# Altium footprint library TO92127P478H483-3.PcbLib: 1 footprints
Each footprint in its own frame and in the unit in brackets; x right, y up, seen from the top. Pads: shape width x height; smd on the part's side, far side on the other; paste and mask are expansions set on the pad; w line width, h text height; cw(c..) or ccw(c..) is an arc to the next point about the centre after c.
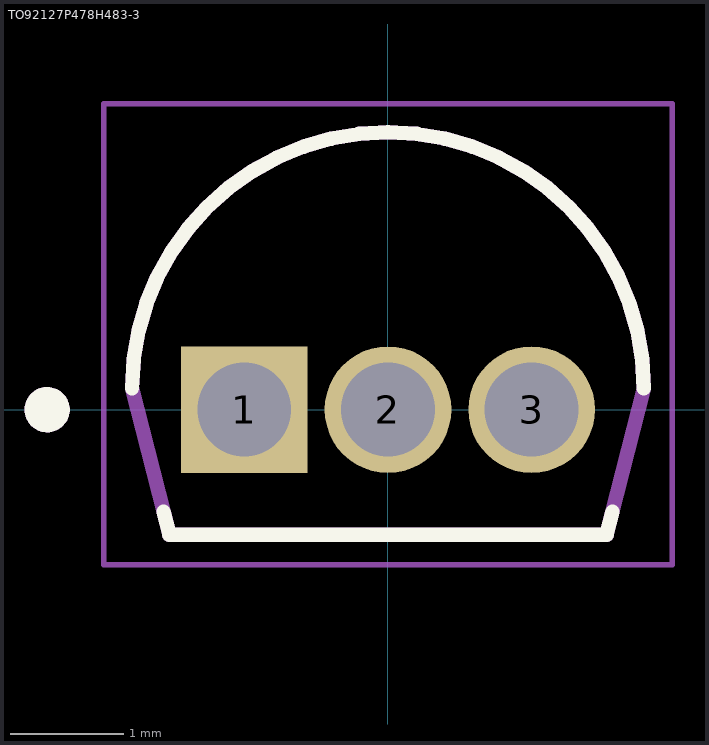
[diagram p0: the footprint, top view; thin cyan lines are the x and y axes]

## TO92127P478H483-3 [mm]
pads (3):
  rect 1.12x1.12 hole 0.83: 1(-1.27,0)
  round 1.12 hole 0.83: 2(0,0) 3(1.27,0)
Top Overlay:
  circle w0.2: c-3.013,0 r0.1
  lines w0.127: -2.262,0.19 cw(c0,0.19) 2.262,0.19 ; -1.984,-0.9 -1.933,-1.105 1.933,-1.105 1.984,-0.9
Mechanical 13:
  circle w0.2: c-3.013,0 r0.1
  lines w0.127: -2.262,0.19 cw(c0,0.19) 2.262,0.19 1.933,-1.105 -1.933,-1.105 -2.262,0.19
Mechanical 15:
  lines w0.05: -2.512,-1.37 -2.512,2.703 2.512,2.703 2.512,-1.37 -2.512,-1.37
3D body "step_temp.STEP": height 8, standoff -3, extent -2.399,-1.533 2.399,2.4